# Altium footprint library 4.Diodes.PcbLib: 30 footprints (part 1 of 2)
Each footprint in its own frame and in the unit in brackets; x right, y up, seen from the top. Pads: shape width x height; smd on the part's side, far side on the other; paste and mask are expansions set on the pad; w line width, h text height; cw(c..) or ccw(c..) is an arc to the next point about the centre after c.
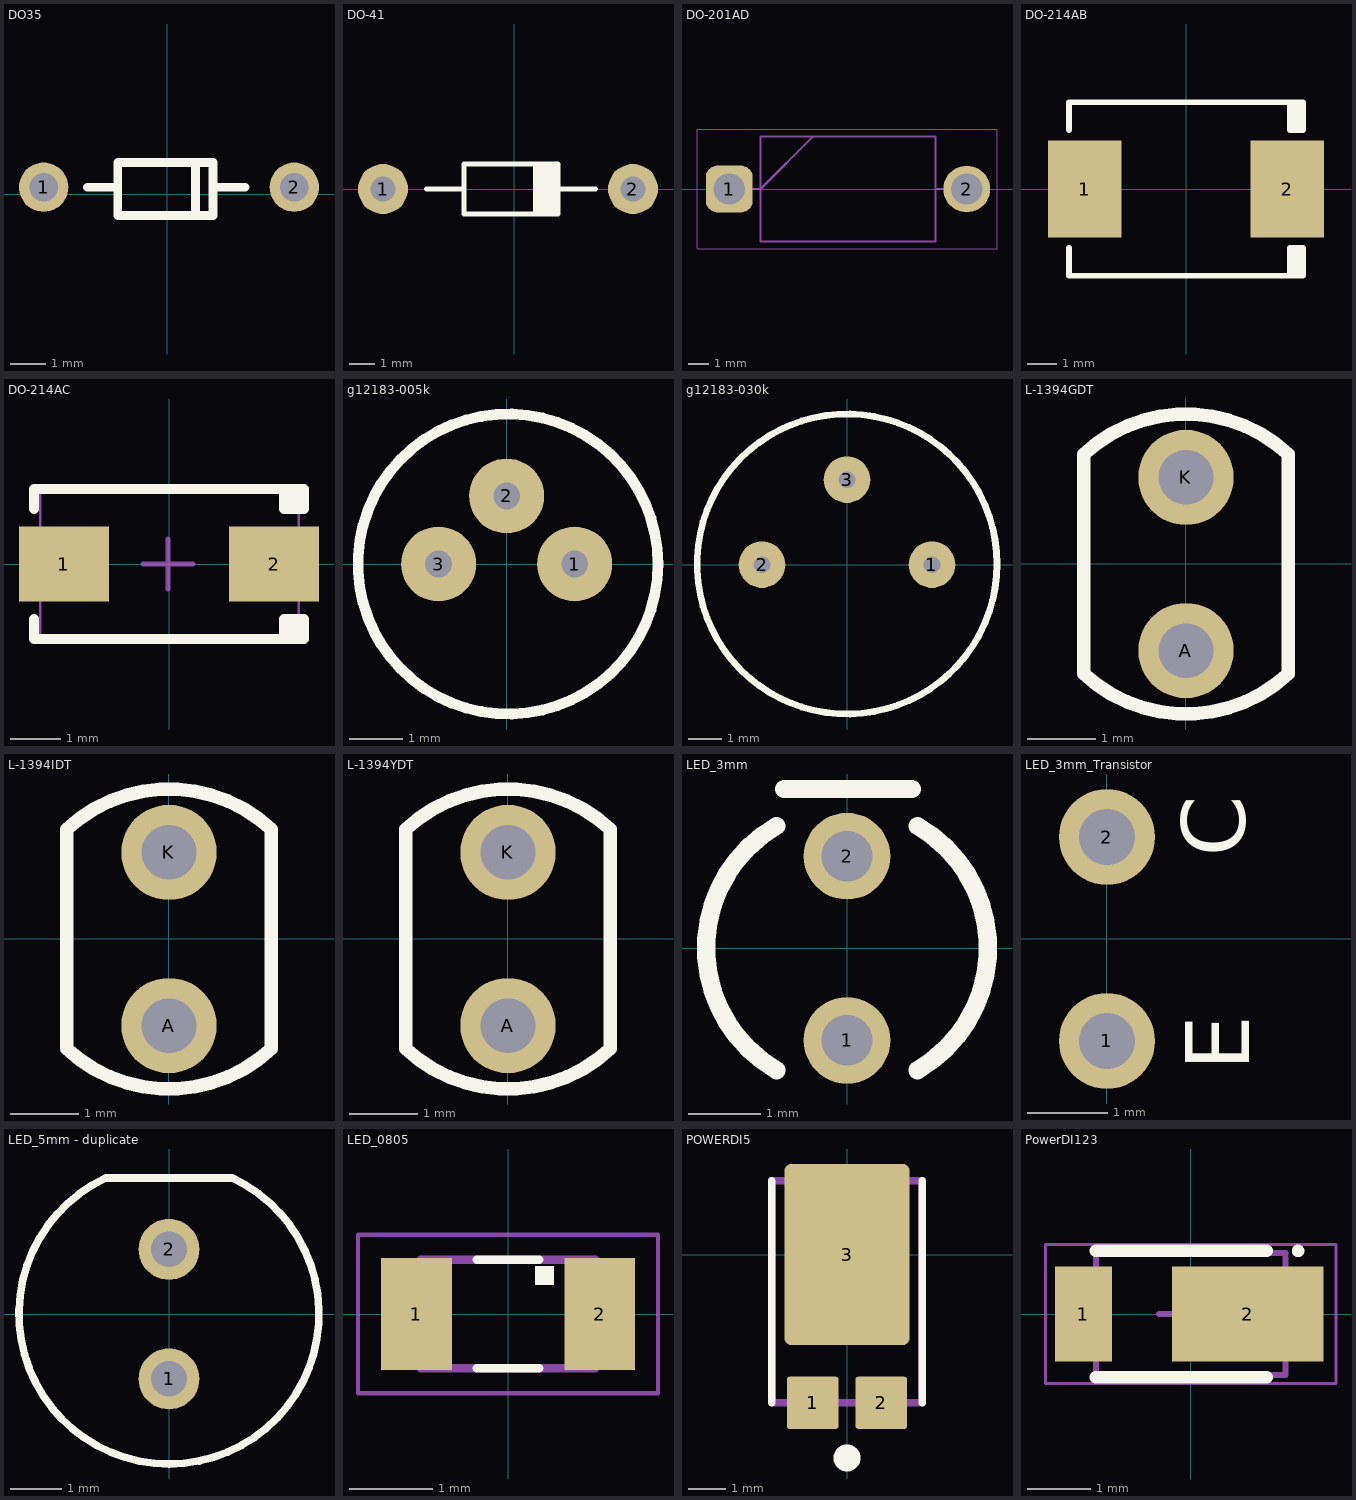
[diagram p0: the footprints below, top view; thin cyan lines are the x and y axes]

## DO35 [mm]
pads (2):
  round 1.4 hole 0.8: 1(-3.5,0.2) 2(3.6,0.2)
Top Overlay:
  lines w0.25: -2.266,0.2 -1.5,0.2 ; 0.8,-0.5 0.8,0.8 ; 1.436,0.2 2.2,0.2 ; -1.4,-0.6 1.3,-0.6 1.3,0.9 -1.4,0.9 -1.4,-0.6
3D body "User Library-1n4148-1.step": height 3, standoff -3.5, extent -3.7,-0.9 3.8,1.1

## DO-41 [mm]
pads (2):
  round 2 hole 1: 1(-5.25,0) 2(4.75,0)
Top Overlay:
  rectangle: 0.75,-1 1.75,1
  lines w0.2: -3.5,0 -2,0 ; 1.75,0 3.25,0 ; -2,0 -2,1 1.75,1 1.75,-1 -2,-1 -2,0
3D body "User Library-DO-41-2.step": height 3.22, standoff -2.1, extent -5.762,-1.47 5.262,1.25

## DO-201AD [mm]
pads (2):
  rrect50% 2.25x2.25 hole 1.5: 1(8.6,0)
  round 2.25 hole 1.5: 2(20,0)
Mechanical 13:
  lines w0.1: 8.6,0 10.1,0 12.625,2.525 ; 18.5,0 20,0 ; 10.1,-2.525 10.1,2.525 18.5,2.525 18.5,-2.525 10.1,-2.525
Mechanical 15:
  lines w0.05: 7.05,-2.875 21.45,-2.875 21.45,2.875 7.05,2.875 7.05,-2.875
3D body "User Library-DO-41-2.step": height 3.22, standoff -2.1, extent 8.6,-1.36 19.624,1.36

## DO-214AB [mm]
pads (2):
  rect 2.5x3.3 smd: 1(-3.45,0) 2(3.45,0)
Top Overlay:
  lines w0.2: -3.975,-2 -3.975,-2.95 3.975,-2.95 ; -3.975,2 -3.975,2.95 3.975,2.95 ; 3.53,-2.95 3.53,-2 3.98,-2 3.98,-2.95 ; 3.53,2.95 3.53,2 3.98,2 3.98,2.95 ; 3.65,-2.95 3.65,-2 ; 3.65,2 3.65,2.95 ; 3.8,-2.95 3.8,-2 ; 3.8,2 3.8,2.95
3D body "User Library-DO-214AB SMC.step": height 2.31, standoff 0.01, extent -3.975,-2.95 3.975,2.95

## DO-214AC [mm]
pads (2):
  rect 1.8x1.5 smd: 1(-2.1,0) 2(2.1,0)
Top Overlay:
  lines w0.2: -2.7,-1.1 -2.7,-1.5 2.7,-1.5 2.7,-1.1 2.3,-1.1 2.3,-1.4 2.6,-1.4 2.6,-1.2 ; -2.7,1.1 -2.7,1.5 2.7,1.5 2.7,1.1 ; 2.3,1.4 2.3,1.1 2.5,1.1 2.7,1.1 ; 2.4,-1.4 2.5,-1.4 ; 2.4,-1.2 2.5,-1.2 2.5,-1.3 ; 2.6,1.2 2.4,1.2 2.4,1.4 2.7,1.4 2.7,1.1
Mechanical 15:
  lines w0.05: -2.575,-1.45 -2.575,1.45 2.6,1.45 2.6,-1.45 -2.575,-1.45
  lines w0.1: -0.517,-0.003 0.483,-0.003 ; -0.017,-0.503 -0.017,0.497
3D body "User Library-DO-214AC_SMA.step": height 2.25, standoff 0.05, extent -2.5,-1.35 2.5,1.35

## g12183-005k [mm]
pads (3):
  round 1.4 hole 0.5: 1(1.27,0) 2(0,1.27) 3(-1.27,0)
Top Overlay:
  circle w0.2: c0.025,0 r2.8
3D body "Фотодиод версия поменьеш.STEP": height 3.7, standoff -3, extent -2.7,-2.7 2.7,2.7

## g12183-030k [mm] "Фотодиод"
pads (3):
  round 1.4 hole 0.5: 1(2.55,0) 2(-2.55,0) 3(0,2.55)
Top Overlay:
  circle w0.2: c0,0.02 r4.5
3D body "Фотодиод.STEP": height 4.35, standoff -3, extent -4.6,-4.6 4.6,4.6

## L-1394GDT [mm]
pads (2):
  round 1.4 hole 0.8: A(0,-1.27) K(0,1.27)
Top Overlay:
  lines w0.2: -1.5,-1.609 ccw(c0,0) 1.5,-1.609 ; -1.5,-1.6 -1.5,1.6 ; -1.5,1.609 cw(c0,0) 1.5,1.609 ; 1.5,-1.6 1.5,1.6
3D body "L-1394GDT.step": height 12.6, standoff -12.9, extent -1.5,-1.9 1.5,1.9

## L-1394IDT [mm]
pads (2):
  round 1.4 hole 0.8: A(0,-1.27) K(0,1.27)
Top Overlay:
  lines w0.2: -1.5,-1.609 ccw(c0,0) 1.5,-1.609 ; -1.5,-1.6 -1.5,1.6 ; -1.5,1.609 cw(c0,0) 1.5,1.609 ; 1.5,-1.6 1.5,1.6
3D body "L-1394IDT.step": height 12.6, standoff -12.9, extent -1.5,-1.9 1.5,1.9

## L-1394YDT [mm]
pads (2):
  round 1.4 hole 0.8: A(0,-1.27) K(0,1.27)
Top Overlay:
  lines w0.2: -1.5,-1.609 ccw(c0,0) 1.5,-1.609 ; -1.5,-1.6 -1.5,1.6 ; -1.5,1.609 cw(c0,0) 1.5,1.609 ; 1.5,-1.6 1.5,1.6
3D body "L-1394YDT.step": height 12.6, standoff -12.9, extent -1.5,-1.9 1.5,1.9

## LED_3mm [mm]
pads (2):
  round 1.2 hole 0.7: 1(0,-1.277) 2(0,1.27)
Top Overlay:
  lines w0.254: -0.975,-1.689 cw(c0,0) -0.975,1.689 ; -0.869,2.2 0.9,2.2 ; 0.975,-1.689 ccw(c0,0) 0.975,1.689
3D body "everlight-3MM-LED-CLEAR.step": height 5.64, standoff -6.93, extent -1.9,-1.9 1.9,1.526

## LED_3mm_Transistor [mm]
pads (2):
  round 1.2 hole 0.7: 1(0,-1.277) 2(0,1.27)
Top Overlay:
  text "C" at 1.725,1.025 h0.8
  text "E" at 1.775,-1.65 h0.8
3D body "everlight-3MM-LED-CLEAR.step": height 5.64, standoff -6.93, extent -1.9,-1.9 1.9,1.526

## LED_5mm - duplicate [mm]
pads (2):
  round 1.2 hole 0.7: 1(0,-1.277) 2(0,1.27)
Top Overlay:
  lines w0.15: -1.259,2.668 ccw(c0,0) 1.248,2.673 ; -1.245,2.675 1.248,2.675
3D body "User Library-LEDd5C.STEP": height 12.31, standoff -2.49, extent -3.009,-2.962 3.01,2.458

## LED_0805 [mm]
pads (2):
  rect 0.85x1.35 smd: 1(-1.1,0) 2(1.1,0)
Top Overlay:
  rectangle: 0.325,0.35 0.55,0.575
  lines w0.1: -0.375,-0.65 0.375,-0.65 ; -0.375,0.65 0.375,0.65
Mechanical 13:
  lines w0.1: -1.05,-0.65 1.05,-0.65 1.05,0.65 -1.05,0.65 -1.05,-0.65
Mechanical 15:
  lines w0.05: -1.8,-0.95 1.8,-0.95 1.8,0.95 -1.8,0.95 -1.8,-0.95
3D body "User Library-LED-0805_LED-0805-Base.sldprt": height 0.5, standoff 0, extent -1,-0.625 1,0.625
3D body "User Library-LED-0805_LED-0805-Glass.sldprt": height 0.5, standoff 0, extent -0.7,-0.625 0.7,0.625

## POWERDI5 [mm]
pads (3):
  rrect10% 1.39x1.4 smd: 1(-0.92,-3.982) 2(0.92,-3.982)
  rrect10% 3.36x4.86 smd: 3(0,0)
Top Overlay:
  circle w0.4: c0,-5.461 r0.164
  lines w0.2: -2.025,-3.978 -2.025,1.984 ; 2.025,-3.978 2.025,1.984
Mechanical 13:
  lines w0.2: -2.025,-3.978 -2.025,1.984 2.025,1.984 2.025,-3.978 -2.025,-3.978
3D body "PDS760-13.stp": height 1.05, standoff 0, extent -2.06,-4.54 1.84,1.86

## PowerDI123 [mm] "SODFL, 2-Leads, Body 1.78x3.70mm, IPC Medium Density"
height 1
pads (2):
  rect 0.9x1.5 smd: 1(-1.7,0)
  rect 2.4x1.5 smd: 2(0.9,0)
Top Overlay:
  circle w0.1: c1.7,1 r0.05
  lines w0.2: -1.5,-1 1.2,-1 ; -1.5,1 1.2,1
Mechanical 13:
  lines w0.1: -1.5,-0.965 1.5,-0.965 1.5,0.965 -1.5,0.965 -1.5,-0.965
Mechanical 15:
  lines w0.05: -2.3,-1.1 2.3,-1.1 2.3,1.1 -2.3,1.1 -2.3,-1.1
  lines w0.1: -0.5,0 0.5,0 ; 0,-0.5 0,0.5
3D body "SODFL370X100-2N.step": height 1, standoff 0, extent -1.85,-0.965 1.85,0.965